# Altium footprint library clock.PcbLib: 5 footprints
Each footprint in its own frame and in the unit in brackets; x right, y up, seen from the top. Pads: shape width x height; smd on the part's side, far side on the other; paste and mask are expansions set on the pad; w line width, h text height; cw(c..) or ccw(c..) is an arc to the next point about the centre after c.
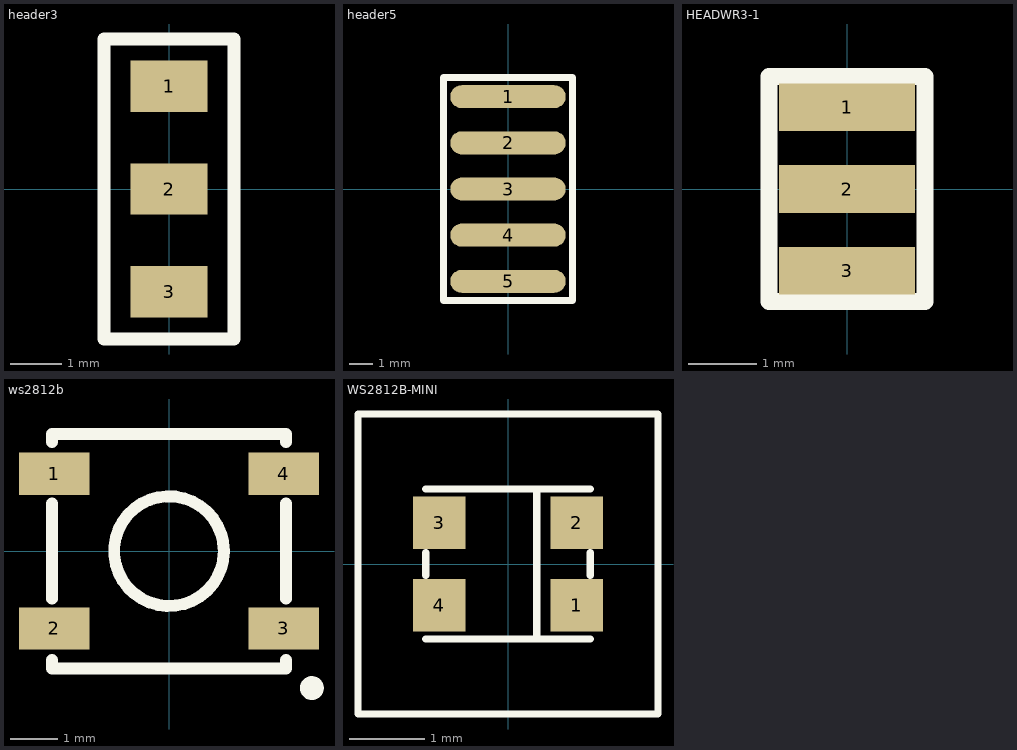
[diagram p0: the footprints below, top view; thin cyan lines are the x and y axes]

## header3 [mm]
pads (3):
  rect 1.5x1 smd: 1(0,2) 2(0,0) 3(0,-2)
Top Overlay:
  lines w0.254: -1.27,-2.921 -1.27,2.921 1.27,2.921 1.27,-2.794 1.27,-2.921 -1.27,-2.921

## header5 [mm]
height 2.5
pads (5):
  oval 5x1 smd: 1(0,4) 2(0,2) 3(0,0) 4(0,-2) 5(0,-4)
Top Overlay:
  lines w0.3: -2.794,-4.826 -2.794,4.826 2.794,4.826 2.794,-4.826 -2.794,-4.826

## HEADWR3-1 [mm]
pads (3):
  rect 2x0.7 smd: 1(0,1.2) 2(0,0) 3(0,-1.2)
Top Overlay:
  lines w0.254: -1.143,-1.651 1.143,-1.651 1.143,1.651 -1.143,1.651 -1.143,-1.651

## ws2812b [mm]
height 1.57
pads (4):
  rect 1.5x0.9 smd: 1(-2.45,1.65) 2(-2.45,-1.65) 3(2.45,-1.65) 4(2.45,1.65)
Top Overlay:
  circle w0.254: c3.048,-2.921 r0.127
  circle w0.254: c0,0 r1.171
  lines w0.254: -2.5,-2.326 -2.5,-2.5 2.5,-2.5 2.5,-2.326 ; -2.5,-1.016 -2.5,1.016 ; -2.5,2.326 -2.5,2.5 2.5,2.5 2.5,2.326 ; 2.5,-1.016 2.5,1.016

## WS2812B-MINI [mm]
pads (4):
  rect 0.7x0.7 smd: 1(0.915,-0.55) 2(0.915,0.55) 3(-0.915,0.55) 4(-0.915,-0.55)
Top Overlay:
  lines w0.1: -1.1,-1 1.1,-1 ; -1.1,-0.15 -1.1,0.15 ; -1.1,1 1.1,1 ; 0.381,-1 0.381,1 ; 1.1,-0.15 1.1,0.15 ; -2,-2 2,-2 2,2 -2,2 -2,-2